# Altium footprint library SchottkyDiode_BAT46JFILM.PcbLib: 1 footprints
Each footprint in its own frame and in the unit in brackets; x right, y up, seen from the top. Pads: shape width x height; smd on the part's side, far side on the other; paste and mask are expansions set on the pad; w line width, h text height; cw(c..) or ccw(c..) is an arc to the next point about the centre after c.
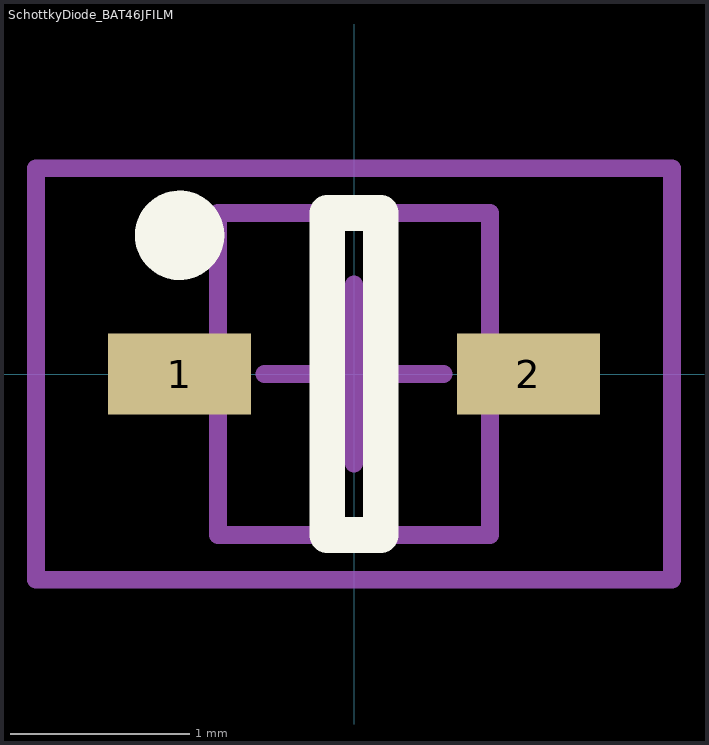
[diagram p0: the footprint, top view; thin cyan lines are the x and y axes]

## SchottkyDiode_BAT46JFILM [mm]
height 1.17
pads (2):
  rect 0.8x0.45 smd: 1(-0.975,0) 2(0.975,0)
Top Overlay:
  circle w0.25: c-0.975,0.775 r0.125
  lines w0.2: -0.15,-0.9 0.15,-0.9 0.15,0.9 -0.15,0.9 -0.15,-0.9
Mechanical 13:
  lines w0.1: -0.76,-0.9 0.76,-0.9 0.76,0.9 -0.76,0.9 -0.76,-0.9
Mechanical 15:
  lines w0.1: -0.5,0 0.5,0 ; 0,-0.5 0,0.5 ; -1.778,-1.15 1.778,-1.15 1.778,1.15 -1.778,1.15 -1.778,-1.15
3D body: height 1.17, standoff 0, extent -0.76,-0.9 0.76,0.9